# EAGLE library part DIGI-PRO (library digispark)
Digispark Pro Clone
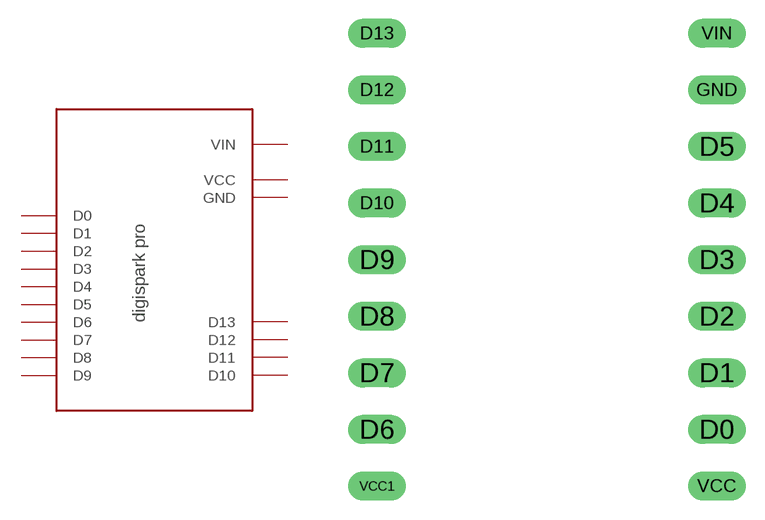
[diagram p0: symbol with the pads of DIGI-PRO; footprint DIGI-PRO]

Designator prefix -

## DIGI-PRO  [DIGI-PRO]
D0  D0
D1  D1
D2  D2
D3  D3
D4  D4
D5  D5
D6  D6
D7  D7
D8  D8
D9  D9
D10  D10
D11  D11
D12  D12
D13  D13
GND  GND
VCC  VCC
VCC1  VCC
VIN  VIN

## Footprint DIGI-PRO (pad centres in mm)
ABK-PRO-MINI
drill 0.8 long: D0 10.16,-19.05; D1 10.16,-16.51; D2 10.16,-13.97; D3 10.16,-11.43; D4 10.16,-8.89; D5 10.16,-6.35; D6 -5.08,-19.05; D7 -5.08,-16.51; D8 -5.08,-13.97; D9 -5.08,-11.43; D10 -5.08,-8.89; D11 -5.08,-6.35; D12 -5.08,-3.81; D13 -5.08,-1.27; GND 10.16,-3.81; VCC 10.16,-21.59; VCC1 -5.08,-21.59; VIN 10.16,-1.27